# Altium footprint library 4-PLCC.PcbLib: 1 footprints
Each footprint in its own frame and in the unit in brackets; x right, y up, seen from the top. Pads: shape width x height; smd on the part's side, far side on the other; paste and mask are expansions set on the pad; w line width, h text height; cw(c..) or ccw(c..) is an arc to the next point about the centre after c.
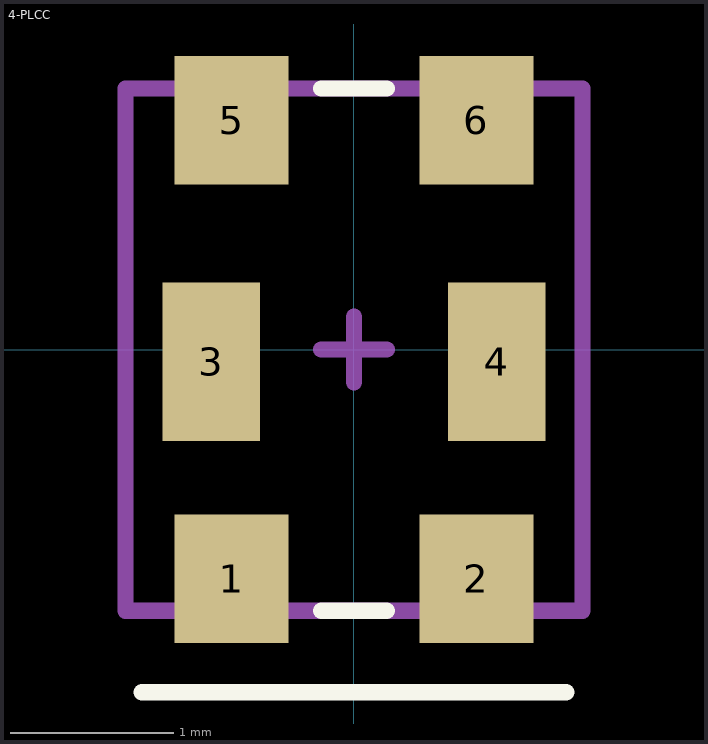
[diagram p0: the footprint, top view; thin cyan lines are the x and y axes]

## 4-PLCC [mm]
pads (6):
  rect 0.7x0.79 smd mask+0.051: 1(-0.75,-1.405) 2(0.75,-1.405) 5(-0.75,1.405) 6(0.75,1.405)
  rect 0.6x0.97 smd mask+0.051: 3(-0.875,-0.075) 4(0.875,-0.075)
Top Overlay:
  lines w0.1: -1.3,-2.1 1.3,-2.1 ; -0.2,-1.6 0.2,-1.6 ; -0.2,1.6 0.2,1.6
Mechanical 13:
  lines w0.1: -1.4,-1.6 -1.4,1.6 0,1.6 1.4,1.6 1.4,-1.6 -1.4,-1.6
Mechanical 15:
  lines w0.1: -0.2,0 0,0 ; 0,-0.2 0,0 ; 0,0.2 0,0 ; 0.2,0 0,0
3D body "4-PLCC.step": height 2.04, standoff 0.01, extent -1.35,-1.75 1.35,1.75